# Altium schematic symbol library SCH - CONNECTOR - RJ45 - BEL FUSE SI-46020-F.SCHLIB: 1 symbol
Pins are listed as number, name and electrical type; pins without a type are passive.

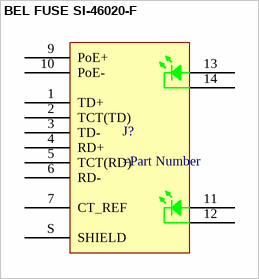
[diagram p0: symbol BEL FUSE SI-46020-F]

## BEL FUSE SI-46020-F
designator J?
pins: 1 TD+, 2 TCT(TD), 3 TD-, 4 RD+, 5 TCT(RD), 6 RD-, 7 CT_REF, 9 PoE+, 10 PoE-, 11 P11, 12 P12, 13 P13, 14 P14, S SHIELD